# Altium schematic symbol library LPC1114.SchLib: 1 symbol
Pins are listed as number, name and electrical type; pins without a type are passive.

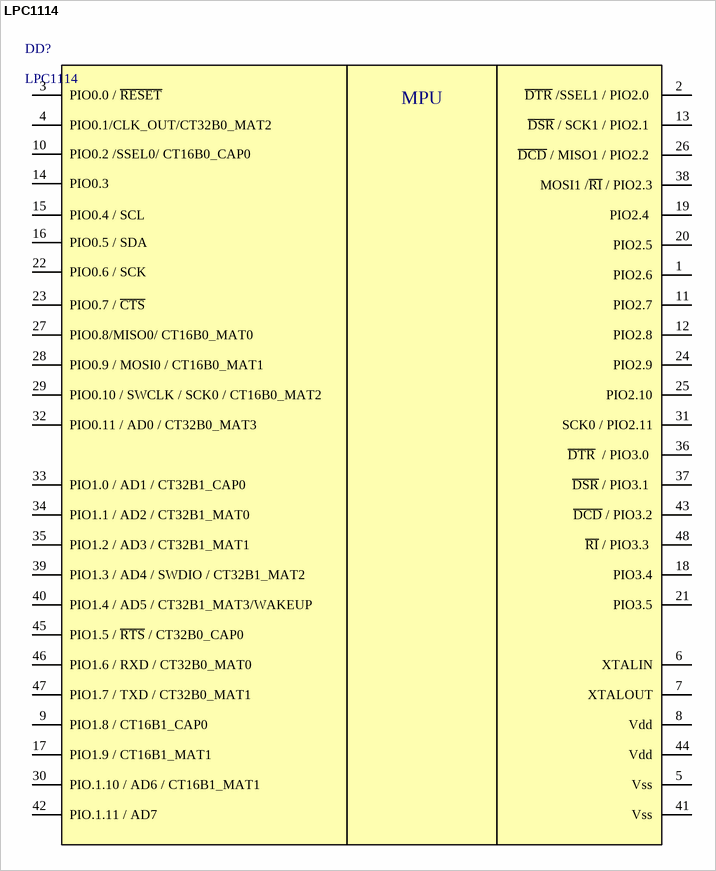
[diagram p0: symbol LPC1114]

## LPC1114
designator DD?
ARM-CORTEX M0; Supplier 1: Mouser; Supplier Part Number 1: 771-LPC1114FBD483021
pins: 1 PIO2.6, 2 ~{DTR} /SSEL1 / PIO2.0 , 3 PIO0.0 / ~{RESET}, 4 PIO0.1/CLK_OUT/CT32B0_MAT2, 5 Vss, 6 XTALIN, 7 XTALOUT, 8 Vdd, 9 PIO1.8 / CT16B1_CAP0, 10 PIO0.2 /SSEL0/ CT16B0_CAP0, 11 PIO2.7, 12 PIO2.8, 13 ~{DSR} / SCK1 / PIO2.1 , 14 PIO0.3, 15 PIO0.4 / SCL, 16 PIO0.5 / SDA, 17 PIO1.9 / CT16B1_MAT1, 18 PIO3.4, 19 PIO2.4 , 20 PIO2.5, 21 PIO3.5, 22 PIO0.6 / SCK, 23 PIO0.7 / ~{CTS}, 24 PIO2.9, 25 PIO2.10, 26  ~{DCD} / MISO1 / PIO2.2 , 27 PIO0.8/MISO0/ CT16B0_MAT0, 28 PIO0.9 / MOSI0 / CT16B0_MAT1, 29 PIO0.10 / SWCLK / SCK0 / CT16B0_MAT2, 30 PIO.1.10 / AD6 / CT16B1_MAT1, 31 SCK0 / PIO2.11, 32 PIO0.11 / AD0 / CT32B0_MAT3, 33 PIO1.0 / AD1 / CT32B1_CAP0, 34 PIO1.1 / AD2 / CT32B1_MAT0, 35 PIO1.2 / AD3 / CT32B1_MAT1, 36 ~{DTR}  / PIO3.0 , 37  ~{DSR} / PIO3.1 , 38 MOSI1 /~{RI} / PIO2.3, 39 PIO1.3 / AD4 / SWDIO / CT32B1_MAT2, 40 PIO1.4 / AD5 / CT32B1_MAT3/WAKEUP, 41 Vss, 42 PIO.1.11 / AD7, 43  ~{DCD} / PIO3.2, 44 Vdd, 45 PIO1.5 / ~{RTS} / CT32B0_CAP0, 46 PIO1.6 / RXD / CT32B0_MAT0, 47 PIO1.7 / TXD / CT32B0_MAT1, 48 ~{RI} / PIO3.3 
text: MPU